# Altium schematic symbol library RES0402.SchLib: 1 symbol
Pins are listed as number, name and electrical type; pins without a type are passive.

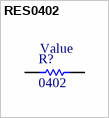
[diagram p0: symbol RES0402]

## RES0402
designator R?, comment 0402
0402 resistor; Value: Value
footprint RES0402R (resistor 0402 reflow soldering)
simulation model RESISTOR (Resistor)
signal-integrity model Res
pins: 1, 2